# Altium schematic symbol library 5557 HX42003-2WA.Schlib: 1 symbol
Pins are listed as number, name and electrical type; pins without a type are passive.

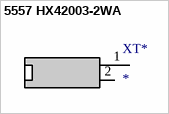
[diagram p0: symbol 5557 HX42003-2WA]

## 5557 HX42003-2WA
designator XT*
5557 Right-Angle Snap-in Power Connector, 1*2 Pin, 1.6mm PCB, AWG30-18, 300V AC/DC, 9A, 0.015R; ComponentLink1Description: Alibaba; ComponentLink1URL: https://cnkaifa.en.alibaba.com/product/60461645204-804219156/5557_5569_molex_4_2mm_4_pin_6_pin_automotive_connector.html?spm=a2700.shop_plser.41413.13.4a1f3b20dfrnSs
footprint 5557 HX42003-2WA
pins: 1, 2